# EAGLE library part TEXAS_INSTRUMENTS-BUCK_CONTROLLER-LM5005_PWP_20 (library Module_Regulators)
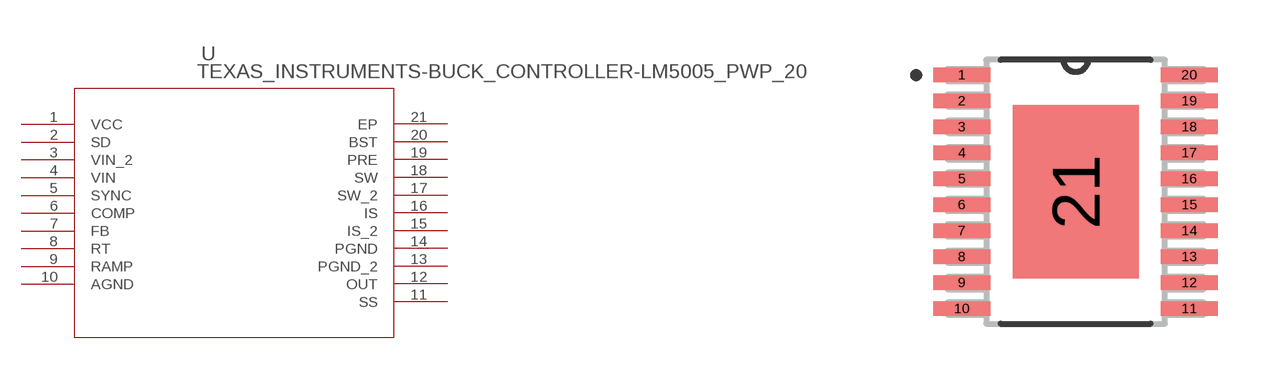
[diagram p37: symbol with the pads of TEXAS_INSTRUMENTS-BUCK_CONTROLLER-LM5005_PWP_20; footprint TEXAS_INSTRUMENTS-BUCK_CONTROLLER-LM5005_PWP_20]

Designator prefix -

## TEXAS_INSTRUMENTS-BUCK_CONTROLLER-LM5005_PWP_20 (MANUFACTURER_PART_NUMBER: lm5005mhnopb; VENDOR: National)  [TEXAS_INSTRUMENTS-BUCK_CONTROLLER-LM5005_PWP_20]
1  VCC  pwr
2  SD  in
3  VIN_2  pwr
4  VIN  pwr
5  SYNC
6  COMP  out
7  FB  in
8  RT  in
9  RAMP  in
10  AGND  pwr
11  SS  in
12  OUT  out
13  PGND_2  pwr
14  PGND  pwr
15  IS_2  in
16  IS  in
17  SW_2  pwr
18  SW  pwr
19  PRE  pas
20  BST  in
21  EP  pwr

## Footprint TEXAS_INSTRUMENTS-BUCK_CONTROLLER-LM5005_PWP_20 (pad centres in mm)
smd 1.422 x 0.356: 1 -2.845,2.925; 2 -2.845,2.275; 3 -2.845,1.625; 4 -2.845,0.975; 5 -2.845,0.325; 6 -2.845,-0.325; 7 -2.845,-0.975; 8 -2.845,-1.625; 9 -2.845,-2.275; 10 -2.845,-2.925; 11 2.845,-2.925; 12 2.845,-2.275; 13 2.845,-1.625; 14 2.845,-0.975; 15 2.845,-0.325; 16 2.845,0.325; 17 2.845,0.975; 18 2.845,1.625; 19 2.845,2.275; 20 2.845,2.925
smd 3.15 x 4.343: 21 0,0